# Altium footprint library DE1207.PcbLib: 1 footprints
Each footprint in its own frame and in the unit in brackets; x right, y up, seen from the top. Pads: shape width x height; smd on the part's side, far side on the other; paste and mask are expansions set on the pad; w line width, h text height; cw(c..) or ccw(c..) is an arc to the next point about the centre after c.
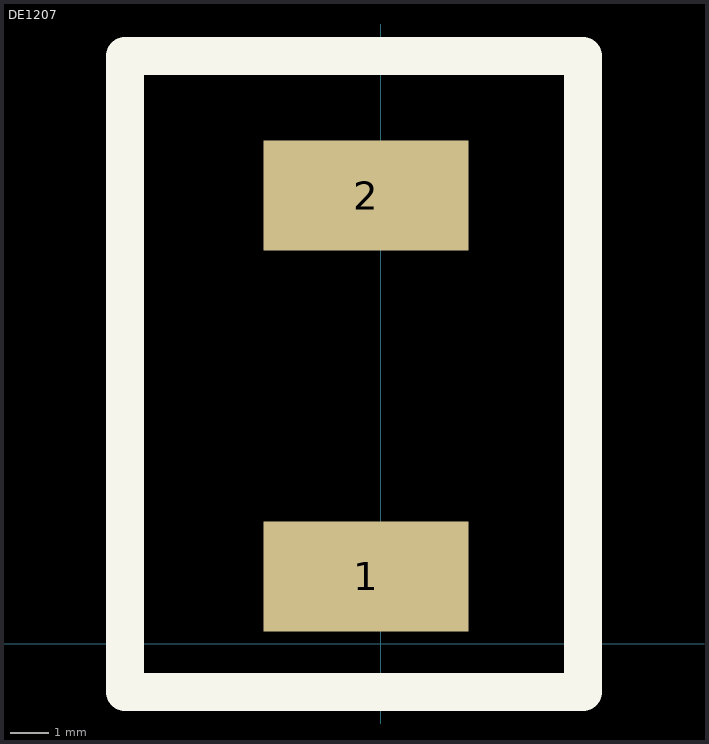
[diagram p0: the footprint, top view; thin cyan lines are the x and y axes]

## DE1207 [mm]
pads (2):
  rect 5.4x2.9 smd: 1(-0.381,1.778) 2(-0.381,11.811)
Top Overlay:
  lines w1: -6.731,-1.27 -6.731,15.494 5.334,15.494 5.334,-1.27 -6.731,-1.27